# EAGLE library part PCA9552BS (library NXP_By_element14_Batch_1)
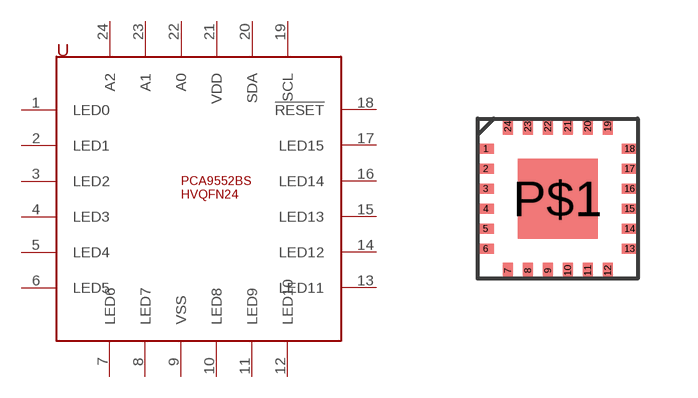
[diagram p0: symbol with the pads of HVQFN24; footprint HVQFN24]

Designator prefix U

## PCA9552BS  [HVQFN24]
1  LED0
2  LED1
3  LED2
4  LED3
5  LED4
6  LED5
7  LED6
8  LED7
9  VSS
10  LED8
11  LED9
12  LED10
13  LED11
14  LED12
15  LED13
16  LED14
17  LED15
18  !RESET
19  SCL
20  SDA
21  VDD
22  A0
23  A1
24  A2

## Footprint HVQFN24 (pad centres in mm)
smd 0.4 x 0.25: 1 -1.8,1.25; 2 -1.8,0.75; 3 -1.8,0.25; 4 -1.8,-0.25; 5 -1.8,-0.75; 6 -1.8,-1.25; 13 1.8,-1.25; 14 1.8,-0.75; 15 1.8,-0.25; 16 1.8,0.25; 17 1.8,0.75; 18 1.8,1.25
smd 0.25 x 0.4: 7 -1.25,-1.8; 8 -0.75,-1.8; 9 -0.25,-1.8; 10 0.25,-1.8; 11 0.75,-1.8; 12 1.25,-1.8; 19 1.25,1.8; 20 0.75,1.8; 21 0.25,1.8; 22 -0.25,1.8; 23 -0.75,1.8; 24 -1.25,1.8
smd 2 x 2: P$1 0,0